# Altium footprint library FlashPinboardForMMC5.PcbLib: 3 footprints
Each footprint in its own frame and in the unit in brackets; x right, y up, seen from the top. Pads: shape width x height; smd on the part's side, far side on the other; paste and mask are expansions set on the pad; w line width, h text height; cw(c..) or ccw(c..) is an arc to the next point about the centre after c.
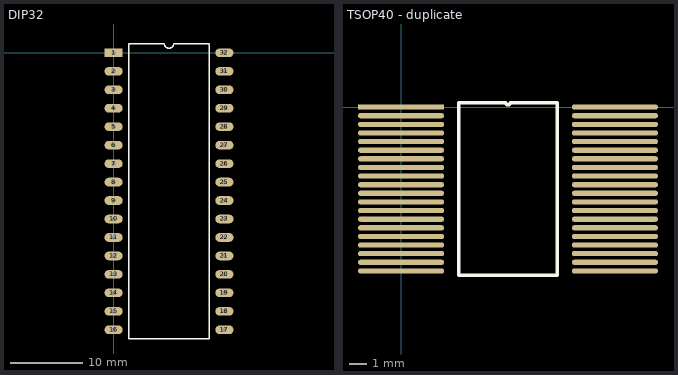
[diagram p0: the footprints below, top view; thin cyan lines are the x and y axes]

## DIP32 [mm]
pads (32):
  rect 2.5x1.2 hole 0.6: 1(0,0)
  oval 2.5x1.2 hole 0.6: 2(0,-2.54) 3(0,-5.08) 4(0,-7.62) 5(0,-10.16) 6(0,-12.7) 7(0,-15.24) 8(0,-17.78) 9(0,-20.32) 10(0,-22.86) 11(0,-25.4) 12(0,-27.94) 13(0,-30.48) 14(0,-33.02) 15(0,-35.56) 16(0,-38.1) 17(15.24,-38.1) 18(15.24,-35.56) 19(15.24,-33.02) 20(15.24,-30.48) 21(15.24,-27.94) 22(15.24,-25.4) 23(15.24,-22.86) 24(15.24,-20.32) 25(15.24,-17.78) 26(15.24,-15.24) 27(15.24,-12.7) 28(15.24,-10.16) 29(15.24,-7.62) 30(15.24,-5.08) 31(15.24,-2.54) 32(15.24,0)
Top Overlay:
  lines w0.2: 2.085,-39.37 13.155,-39.37 13.155,1.27 8.255,1.27 cw(c7.62,1.27) 6.985,1.27 2.085,1.27 2.085,-39.37

## TSOP40 [mm]

## TSOP40 - duplicate [mm]
pads (40):
  rect 5x0.3 smd: 1(0,0)
  oval 5x0.3 smd: 2(0,-0.5) 3(0,-1) 4(0,-1.5) 5(0,-2) 6(0,-2.5) 7(0,-3) 8(0,-3.5) 9(0,-4) 10(0,-4.5) 11(0,-5) 12(0,-5.5) 13(0,-6) 14(0,-6.5) 15(0,-7) 16(0,-7.5) 17(0,-8) 18(0,-8.5) 19(0,-9) 20(0,-9.5) 21(12.4,-9.5) 22(12.4,-9) 23(12.4,-8.5) 24(12.4,-8) 25(12.4,-7.5) 26(12.4,-7) 27(12.4,-6.5) 28(12.4,-6) 29(12.4,-5.5) 30(12.4,-5) 31(12.4,-4.5) 32(12.4,-4) 33(12.4,-3.5) 34(12.4,-3) 35(12.4,-2.5) 36(12.4,-2) 37(12.4,-1.5) 38(12.4,-1) 39(12.4,-0.5) 40(12.4,0)
Top Overlay:
  lines w0.2: 3.335,-9.75 3.335,0.25 6.075,0.25 ccw(c6.2,0.25) 6.325,0.25 9.065,0.25 9.065,-9.75 3.335,-9.75